# Altium integrated library Inductance.IntLib: 4 symbols
Pins are listed as number, name and electrical type; pins without a type are passive.

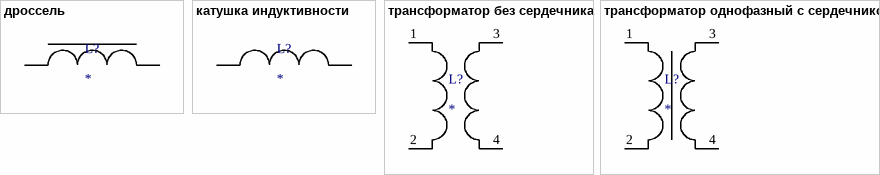
[diagram p0: symbols дроссель to трансформатор однофазный с сердечником]

## дроссель
designator L?
pins: 1, 2

## катушка индуктивности
designator L?
pins: 1, 2

## трансформатор без сердечника
designator L?
pins: 1, 2, 3, 4

## трансформатор однофазный с сердечником
designator L?
pins: 1, 2, 3, 4